# Altium footprint library LT-MSE-12-EDP_L.PcbLib: 1 footprints
Each footprint in its own frame and in the unit in brackets; x right, y up, seen from the top. Pads: shape width x height; smd on the part's side, far side on the other; paste and mask are expansions set on the pad; w line width, h text height; cw(c..) or ccw(c..) is an arc to the next point about the centre after c.
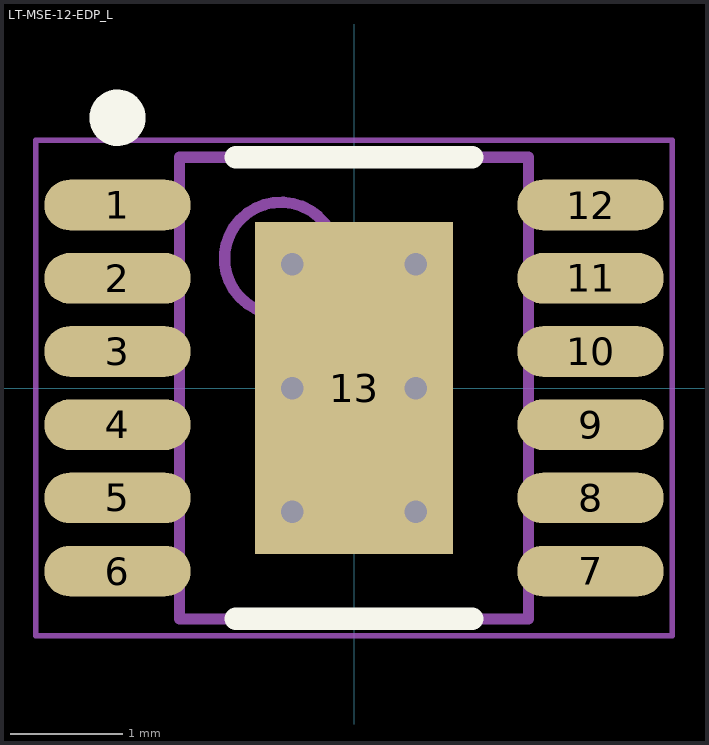
[diagram p0: the footprint, top view; thin cyan lines are the x and y axes]

## LT-MSE-12-EDP_L [mm] "SOP, 12-Leads, Body 4.039x3mm, Pitch 0.65mm, Thermal Pad 2.95x1.76mm, IPC High Density"
height 1.1
pads (13):
  oval 1.3x0.45 smd: 1(-2.1,1.625) 2(-2.1,0.975) 3(-2.1,0.325) 4(-2.1,-0.325) 5(-2.1,-0.975) 6(-2.1,-1.625) 7(2.1,-1.625) 8(2.1,-0.975) 9(2.1,-0.325) 10(2.1,0.325) 11(2.1,0.975) 12(2.1,1.625)
  rect 1.76x2.95 smd: 13(0,0)
via -0.55,1.1 diameter 0.5 hole 0.2
via 0.55,1.1 diameter 0.5 hole 0.2
via -0.55,0 diameter 0.5 hole 0.2
via 0.55,0 diameter 0.5 hole 0.2
via -0.55,-1.1 diameter 0.5 hole 0.2
via 0.55,-1.1 diameter 0.5 hole 0.2
Top Overlay:
  circle w0.25: c-2.1,2.4 r0.125
  lines w0.2: -1.05,-2.05 1.05,-2.05 ; -1.05,2.05 1.05,2.05
Mechanical 13:
  circle w0.1: c-0.65,1.15 r0.5
  lines w0.1: -1.55,-2.05 -1.55,2.05 1.55,2.05 1.55,-2.05 -1.55,-2.05
Mechanical 15:
  lines w0.05: -2.825,-2.2 -2.825,2.2 2.825,2.2 2.825,-2.2 -2.825,-2.2
  lines w0.1: -0.5,0 0.5,0 ; 0,-0.5 0,0.5
3D body: height 1.1, standoff 0.05, extent -1.55,-2.05 1.55,2.05